# EAGLE library part NC7SZ373 (library Mikes-Stuff)
5V D-Latch
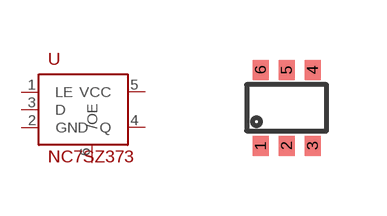
[diagram p21: symbol with the pads of TSSOP-6; footprint TSSOP-6]

Designator prefix -

## NC7SZ373TSSOP-6  [TSSOP-6]
1  LE
2  GND
3  D
4  Q
5  VCC
6  /OE

## Footprint TSSOP-6 (pad centres in mm)
smd 0.4 x 0.5: 1 -0.65,-0.95; 2 0,-0.95; 3 0.65,-0.95; 4 0.65,0.95; 5 0,0.95; 6 -0.65,0.95